# Altium integrated library Atmel Microcontroller AVR UC3.IntLib: 227 symbols (part 19 of 32)
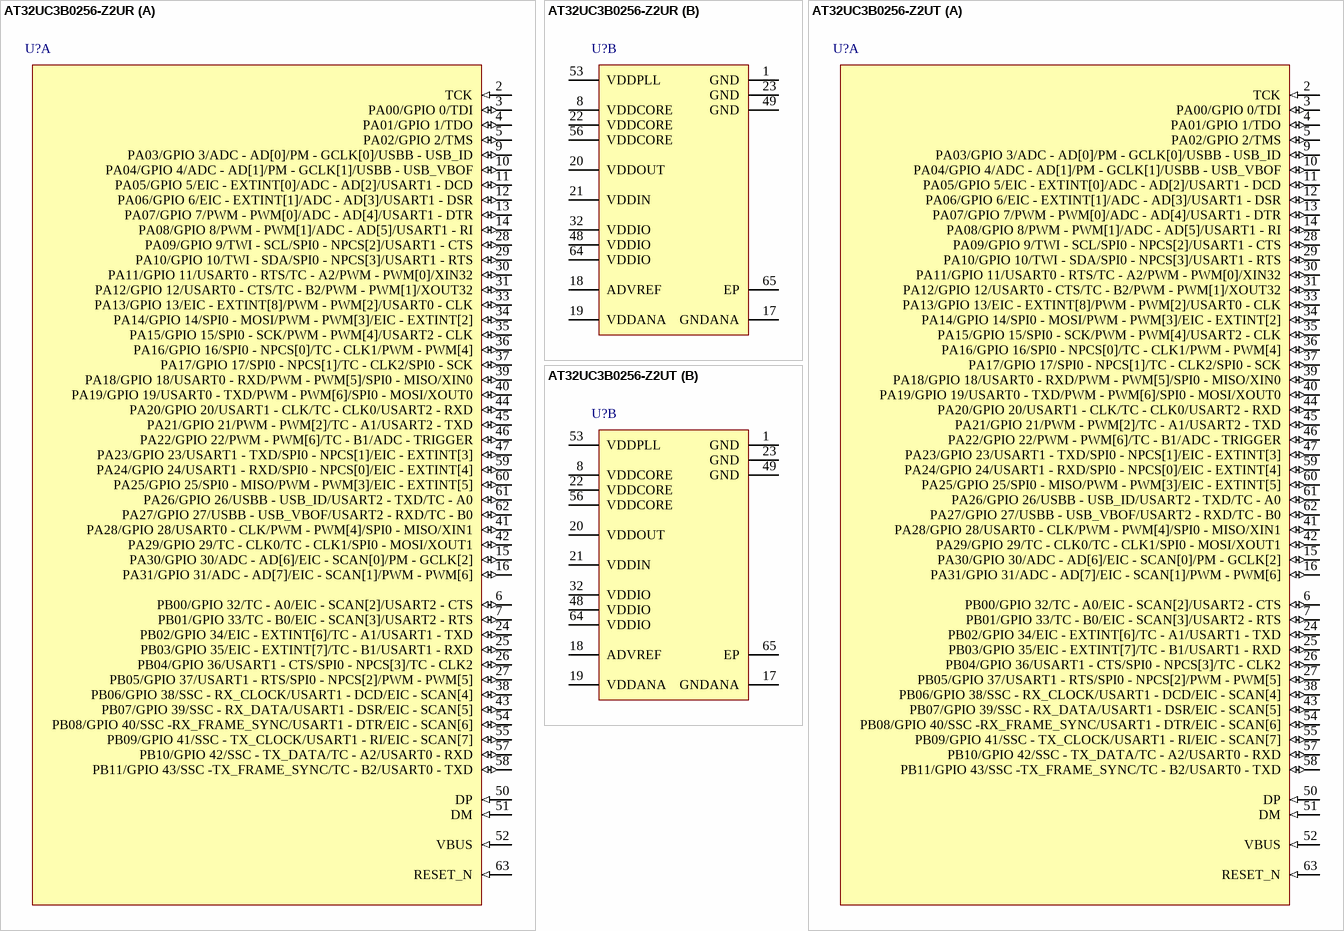
[diagram p251: symbols AT32UC3B0256-Z2UR to AT32UC3B0256-Z2UT]

## AT32UC3B0256-Z2UT
designator U?
32-bit AVR UC3 B Series Microcontroller, 256KB Flash, 32KB SRAM, 44 GPIO pins, Industrial Grade, 64-Pin QFN, Tray; DatasheetVersion: revL, Jan-2012; PackageVersion: 2011; PackageReference: VQFN64; PackageDescription: 64-Pin Quad Flat No-Lead, Punched, 9 x 9 x 0.9 mm Body, 0.5 mm Pitch, Exposed Pad; Code_JEDEC: MO-220; ComponentLink1Description: Manufacturer URL; ComponentLink1URL: http://www.atmel.com/; ComponentLink2Description: AT32UC3B Datasheet; ComponentLink2URL: http://www.atmel.com/dyn/resources/prod_documents/doc32059.pdf; ComponentLink3Description: AT32UC3B Summary; ComponentLink3URL: http://www.atmel.com/dyn/resources/prod_documents/32059S.pdf
footprint VQFN64_N (QFN, 64-Leads, Body 9x9mm, Pitch 0.5mm, Thermal Pad 7.5x7.5mm, IPC Medium Density)
footprint VQFN64_L (QFN, 64-Leads, Body 9x9mm, Pitch 0.5mm, Thermal Pad 7.5x7.5mm, IPC High Density)
footprint VQFN64_M (QFN, 64-Leads, Body 9x9mm, Pitch 0.5mm, Thermal Pad 7.5x7.5mm, IPC Low Density)
part A pins: 2 TCK (in), 3 PA00/GPIO 0/TDI (io), 4 PA01/GPIO 1/TDO (io), 5 PA02/GPIO 2/TMS (io), 6 PB00/GPIO 32/TC - A0/EIC - SCAN[2]/USART2 - CTS (io), 7 PB01/GPIO 33/TC - B0/EIC - SCAN[3]/USART2 - RTS (io), 9 PA03/GPIO 3/ADC - AD[0]/PM - GCLK[0]/USBB - USB_ID (io), 10 PA04/GPIO 4/ADC - AD[1]/PM - GCLK[1]/USBB - USB_VBOF (io), 11 PA05/GPIO 5/EIC - EXTINT[0]/ADC - AD[2]/USART1 - DCD (io), 12 PA06/GPIO 6/EIC - EXTINT[1]/ADC - AD[3]/USART1 - DSR (io), 13 PA07/GPIO 7/PWM - PWM[0]/ADC - AD[4]/USART1 - DTR (io), 14 PA08/GPIO 8/PWM - PWM[1]/ADC - AD[5]/USART1 - RI (io), 15 PA30/GPIO 30/ADC - AD[6]/EIC - SCAN[0]/PM - GCLK[2] (io), 16 PA31/GPIO 31/ADC - AD[7]/EIC - SCAN[1]/PWM - PWM[6] (io), 24 PB02/GPIO 34/EIC - EXTINT[6]/TC - A1/USART1 - TXD (io), 25 PB03/GPIO 35/EIC - EXTINT[7]/TC - B1/USART1 - RXD (io), 26 PB04/GPIO 36/USART1 - CTS/SPI0 - NPCS[3]/TC - CLK2 (io), 27 PB05/GPIO 37/USART1 - RTS/SPI0 - NPCS[2]/PWM - PWM[5] (io), 28 PA09/GPIO 9/TWI - SCL/SPI0 - NPCS[2]/USART1 - CTS (io), 29 PA10/GPIO 10/TWI - SDA/SPI0 - NPCS[3]/USART1 - RTS (io), 30 PA11/GPIO 11/USART0 - RTS/TC - A2/PWM - PWM[0]/XIN32 (io), 31 PA12/GPIO 12/USART0 - CTS/TC - B2/PWM - PWM[1]/XOUT32 (io), 33 PA13/GPIO 13/EIC - EXTINT[8]/PWM - PWM[2]/USART0 - CLK (io), 34 PA14/GPIO 14/SPI0 - MOSI/PWM - PWM[3]/EIC - EXTINT[2] (io), 35 PA15/GPIO 15/SPI0 - SCK/PWM - PWM[4]/USART2 - CLK (io), 36 PA16/GPIO 16/SPI0 - NPCS[0]/TC - CLK1/PWM - PWM[4] (io), 37 PA17/GPIO 17/SPI0 - NPCS[1]/TC - CLK2/SPI0 - SCK (io), 38 PB06/GPIO 38/SSC - RX_CLOCK/USART1 - DCD/EIC - SCAN[4] (io), 39 PA18/GPIO 18/USART0 - RXD/PWM - PWM[5]/SPI0 - MISO/XIN0 (io), 40 PA19/GPIO 19/USART0 - TXD/PWM - PWM[6]/SPI0 - MOSI/XOUT0 (io), 41 PA28/GPIO 28/USART0 - CLK/PWM - PWM[4]/SPI0 - MISO/XIN1 (io), 42 PA29/GPIO 29/TC - CLK0/TC - CLK1/SPI0 - MOSI/XOUT1 (io), 43 PB07/GPIO 39/SSC - RX_DATA/USART1 - DSR/EIC - SCAN[5] (io), 44 PA20/GPIO 20/USART1 - CLK/TC - CLK0/USART2 - RXD (io), 45 PA21/GPIO 21/PWM - PWM[2]/TC - A1/USART2 - TXD (io), 46 PA22/GPIO 22/PWM - PWM[6]/TC - B1/ADC - TRIGGER (io), 47 PA23/GPIO 23/USART1 - TXD/SPI0 - NPCS[1]/EIC - EXTINT[3] (io), 50 DP (in), 51 DM (in), 52 VBUS (in), 54 PB08/GPIO 40/SSC -RX_FRAME_SYNC/USART1 - DTR/EIC - SCAN[6] (io), 55 PB09/GPIO 41/SSC - TX_CLOCK/USART1 - RI/EIC - SCAN[7] (io), 57 PB10/GPIO 42/SSC - TX_DATA/TC - A2/USART0 - RXD (io), 58 PB11/GPIO 43/SSC -TX_FRAME_SYNC/TC - B2/USART0 - TXD (io), 59 PA24/GPIO 24/USART1 - RXD/SPI0 - NPCS[0]/EIC - EXTINT[4] (io), 60 PA25/GPIO 25/SPI0 - MISO/PWM - PWM[3]/EIC - EXTINT[5] (io), 61 PA26/GPIO 26/USBB - USB_ID/USART2 - TXD/TC - A0 (io), 62 PA27/GPIO 27/USBB - USB_VBOF/USART2 - RXD/TC - B0 (io), 63 RESET_N (in)
part B pins: 1 GND (power), 8 VDDCORE (power), 17 GNDANA (power), 18 ADVREF (power), 19 VDDANA (power), 20 VDDOUT (power), 21 VDDIN (power), 22 VDDCORE (power), 23 GND (power), 32 VDDIO (power), 48 VDDIO (power), 49 GND (power), 53 VDDPLL (power), 56 VDDCORE (power), 64 VDDIO (power), 65 EP (power)

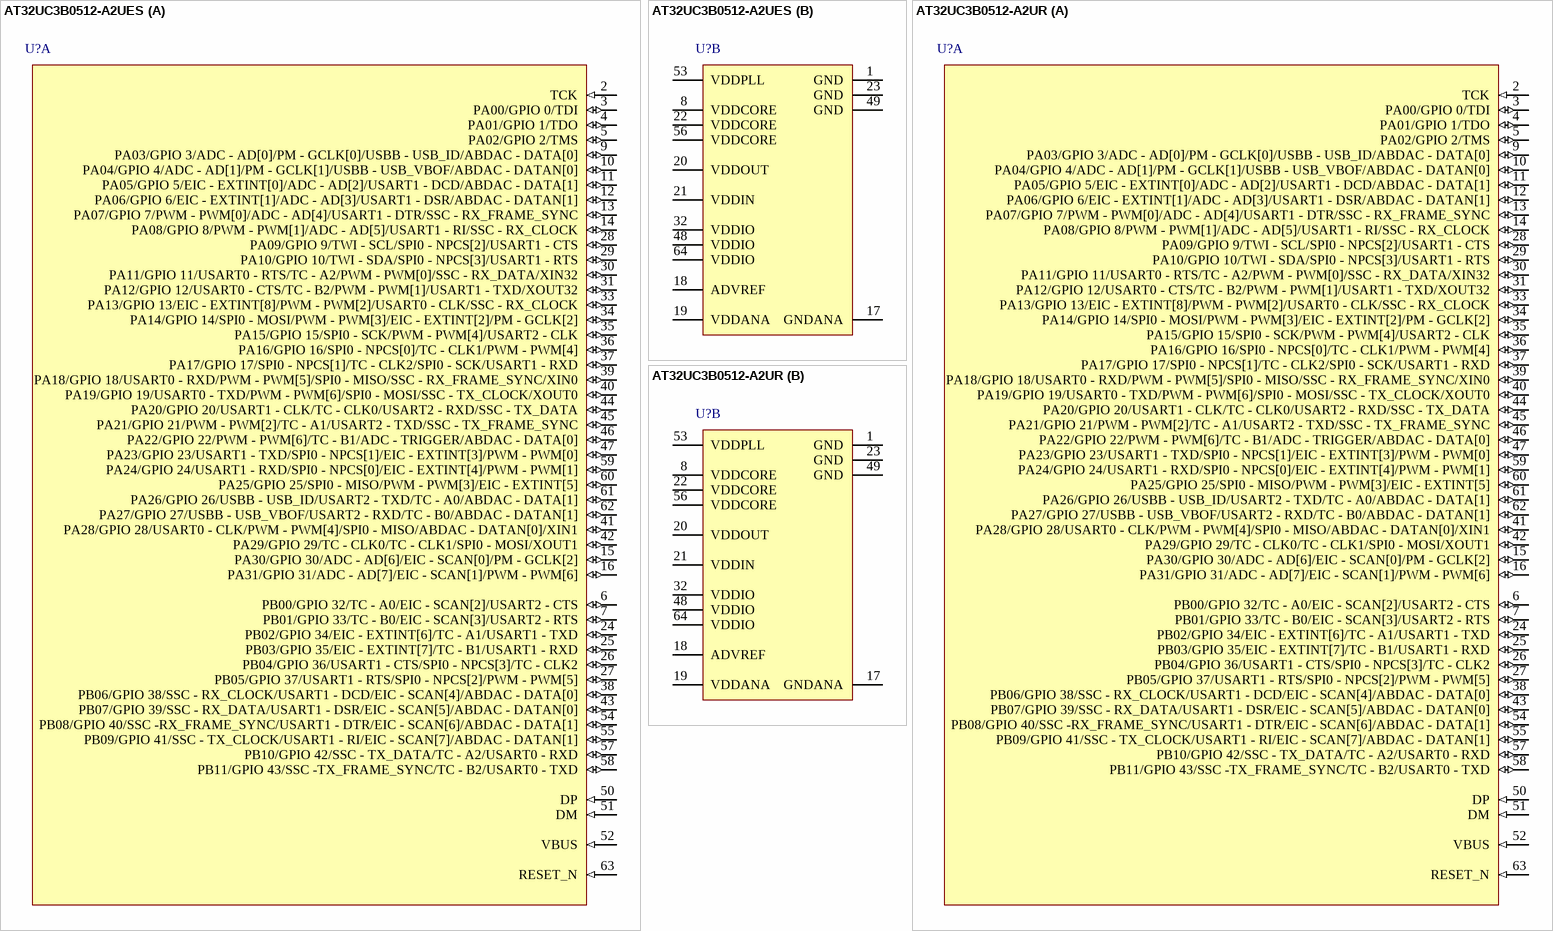
[diagram p64: symbols AT32UC3B0512-A2UES to AT32UC3B0512-A2UR]

## AT32UC3B0512-A2UES
designator U?
32-bit AVR UC3 B Series Microcontroller, 512KB Flash, 96KB SRAM, 44 GPIO pins, Industrial Grade, 64-Pin TQFP; DatasheetVersion: revL, Jan-2012; PackageVersion: 2011; PackageReference: TQFP64; PackageDescription: 64-Pin Thin Quad Flat Pack, 10 x 10 x 1.0 mm Body, 0.5 mm Pitch; Code_JEDEC: MS-026; ComponentLink1Description: Manufacturer URL; ComponentLink1URL: http://www.atmel.com/; ComponentLink2Description: AT32UC3B Datasheet; ComponentLink2URL: http://www.atmel.com/dyn/resources/prod_documents/doc32059.pdf; ComponentLink3Description: AT32UC3B Summary; ComponentLink3URL: http://www.atmel.com/dyn/resources/prod_documents/32059S.pdf
footprint TQFP64_N (Thin QFP, 64-Leads, Body 10x10mm, Pitch 0.5mm, IPC Medium Density)
footprint TQFP64_L (Thin QFP, 64-Leads, Body 10x10mm, Pitch 0.5mm, IPC High Density)
footprint TQFP64_M (Thin QFP, 64-Leads, Body 10x10mm, Pitch 0.5mm, IPC Low Density)
part A pins: 2 TCK (in), 3 PA00/GPIO 0/TDI (io), 4 PA01/GPIO 1/TDO (io), 5 PA02/GPIO 2/TMS (io), 6 PB00/GPIO 32/TC - A0/EIC - SCAN[2]/USART2 - CTS (io), 7 PB01/GPIO 33/TC - B0/EIC - SCAN[3]/USART2 - RTS (io), 9 PA03/GPIO 3/ADC - AD[0]/PM - GCLK[0]/USBB - USB_ID/ABDAC - DATA[0] (io), 10 PA04/GPIO 4/ADC - AD[1]/PM - GCLK[1]/USBB - USB_VBOF/ABDAC - DATAN[0] (io), 11 PA05/GPIO 5/EIC - EXTINT[0]/ADC - AD[2]/USART1 - DCD/ABDAC - DATA[1] (io), 12 PA06/GPIO 6/EIC - EXTINT[1]/ADC - AD[3]/USART1 - DSR/ABDAC - DATAN[1] (io), 13 PA07/GPIO 7/PWM - PWM[0]/ADC - AD[4]/USART1 - DTR/SSC - RX_FRAME_SYNC (io), 14 PA08/GPIO 8/PWM - PWM[1]/ADC - AD[5]/USART1 - RI/SSC - RX_CLOCK (io), 15 PA30/GPIO 30/ADC - AD[6]/EIC - SCAN[0]/PM - GCLK[2] (io), 16 PA31/GPIO 31/ADC - AD[7]/EIC - SCAN[1]/PWM - PWM[6] (io), 24 PB02/GPIO 34/EIC - EXTINT[6]/TC - A1/USART1 - TXD (io), 25 PB03/GPIO 35/EIC - EXTINT[7]/TC - B1/USART1 - RXD (io), 26 PB04/GPIO 36/USART1 - CTS/SPI0 - NPCS[3]/TC - CLK2 (io), 27 PB05/GPIO 37/USART1 - RTS/SPI0 - NPCS[2]/PWM - PWM[5] (io), 28 PA09/GPIO 9/TWI - SCL/SPI0 - NPCS[2]/USART1 - CTS (io), 29 PA10/GPIO 10/TWI - SDA/SPI0 - NPCS[3]/USART1 - RTS (io), 30 PA11/GPIO 11/USART0 - RTS/TC - A2/PWM - PWM[0]/SSC - RX_DATA/XIN32 (io), 31 PA12/GPIO 12/USART0 - CTS/TC - B2/PWM - PWM[1]/USART1 - TXD/XOUT32 (io), 33 PA13/GPIO 13/EIC - EXTINT[8]/PWM - PWM[2]/USART0 - CLK/SSC - RX_CLOCK (io), 34 PA14/GPIO 14/SPI0 - MOSI/PWM - PWM[3]/EIC - EXTINT[2]/PM - GCLK[2] (io), 35 PA15/GPIO 15/SPI0 - SCK/PWM - PWM[4]/USART2 - CLK (io), 36 PA16/GPIO 16/SPI0 - NPCS[0]/TC - CLK1/PWM - PWM[4] (io), 37 PA17/GPIO 17/SPI0 - NPCS[1]/TC - CLK2/SPI0 - SCK/USART1 - RXD (io), 38 PB06/GPIO 38/SSC - RX_CLOCK/USART1 - DCD/EIC - SCAN[4]/ABDAC - DATA[0] (io), 39 PA18/GPIO 18/USART0 - RXD/PWM - PWM[5]/SPI0 - MISO/SSC - RX_FRAME_SYNC/XIN0 (io), 40 PA19/GPIO 19/USART0 - TXD/PWM - PWM[6]/SPI0 - MOSI/SSC - TX_CLOCK/XOUT0 (io), 41 PA28/GPIO 28/USART0 - CLK/PWM - PWM[4]/SPI0 - MISO/ABDAC - DATAN[0]/XIN1 (io), 42 PA29/GPIO 29/TC - CLK0/TC - CLK1/SPI0 - MOSI/XOUT1 (io), 43 PB07/GPIO 39/SSC - RX_DATA/USART1 - DSR/EIC - SCAN[5]/ABDAC - DATAN[0] (io), 44 PA20/GPIO 20/USART1 - CLK/TC - CLK0/USART2 - RXD/SSC - TX_DATA (io), 45 PA21/GPIO 21/PWM - PWM[2]/TC - A1/USART2 - TXD/SSC - TX_FRAME_SYNC (io), 46 PA22/GPIO 22/PWM - PWM[6]/TC - B1/ADC - TRIGGER/ABDAC - DATA[0] (io), 47 PA23/GPIO 23/USART1 - TXD/SPI0 - NPCS[1]/EIC - EXTINT[3]/PWM - PWM[0] (io), 50 DP (in), 51 DM (in), 52 VBUS (in), 54 PB08/GPIO 40/SSC -RX_FRAME_SYNC/USART1 - DTR/EIC - SCAN[6]/ABDAC - DATA[1] (io), 55 PB09/GPIO 41/SSC - TX_CLOCK/USART1 - RI/EIC - SCAN[7]/ABDAC - DATAN[1] (io), 57 PB10/GPIO 42/SSC - TX_DATA/TC - A2/USART0 - RXD (io), 58 PB11/GPIO 43/SSC -TX_FRAME_SYNC/TC - B2/USART0 - TXD (io), 59 PA24/GPIO 24/USART1 - RXD/SPI0 - NPCS[0]/EIC - EXTINT[4]/PWM - PWM[1] (io), 60 PA25/GPIO 25/SPI0 - MISO/PWM - PWM[3]/EIC - EXTINT[5] (io), 61 PA26/GPIO 26/USBB - USB_ID/USART2 - TXD/TC - A0/ABDAC - DATA[1] (io), 62 PA27/GPIO 27/USBB - USB_VBOF/USART2 - RXD/TC - B0/ABDAC - DATAN[1] (io), 63 RESET_N (in)
part B pins: 1 GND (power), 8 VDDCORE (power), 17 GNDANA (power), 18 ADVREF (power), 19 VDDANA (power), 20 VDDOUT (power), 21 VDDIN (power), 22 VDDCORE (power), 23 GND (power), 32 VDDIO (power), 48 VDDIO (power), 49 GND (power), 53 VDDPLL (power), 56 VDDCORE (power), 64 VDDIO (power)